# Altium footprint library K60_144.PcbLib: 19 footprints (part 2 of 2)
Each footprint in its own frame and in the unit in brackets; x right, y up, seen from the top. Pads: shape width x height; smd on the part's side, far side on the other; paste and mask are expansions set on the pad; w line width, h text height; cw(c..) or ccw(c..) is an arc to the next point about the centre after c.
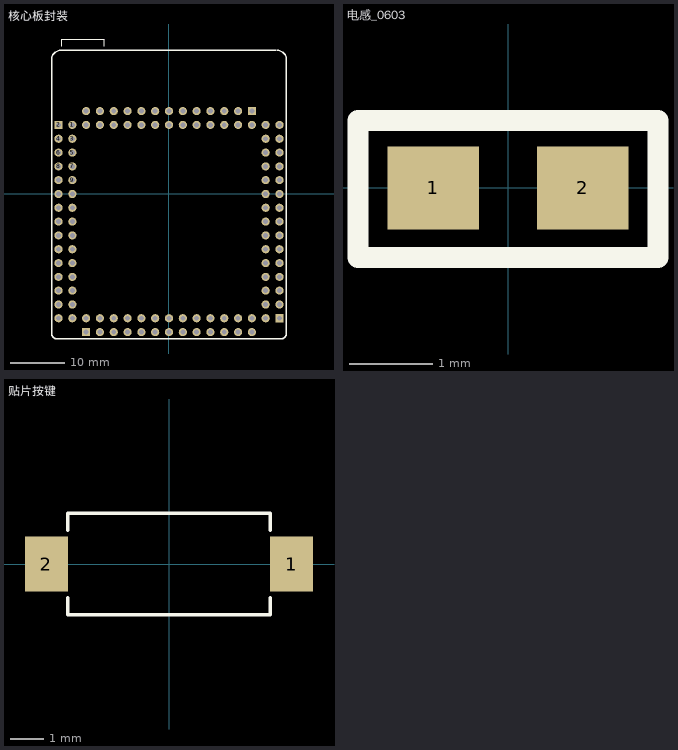
[diagram p1: the footprints below, top view; thin cyan lines are the x and y axes]

## 核心板封装 [mm] "144p 超核电子"
pads (112):
  round 1.5 hole 0.9: 1(-17.78,12.624) 3(-17.78,10.084) 4(-20.32,10.084) 5(-17.78,7.544) 6(-20.32,7.544) 7(-17.78,5.004) 8(-20.32,5.004) 9(-17.78,2.464) 10(-20.32,2.464) 11(-17.78,-0.076) 12(-20.32,-0.076) 13(-17.78,-2.616) 14(-20.32,-2.616) 15(-17.78,-5.156) 16(-20.32,-5.156) 17(-17.78,-7.696) 18(-20.32,-7.696) 19(-17.78,-10.236) 20(-20.32,-10.236) 21(-17.78,-12.776) 22(-20.32,-12.776) 23(-17.78,-15.316) 24(-20.32,-15.316) 25(-17.78,-17.856) 26(-20.32,-17.856) 27(-17.78,-20.396) 28(-20.32,-20.396) 29(-17.78,-22.936) 30(-20.32,-22.936) 32(-15.24,-22.936) 33(-12.7,-25.476) 34(-12.7,-22.936) 35(-10.16,-25.476) 36(-10.16,-22.936) 37(-7.62,-25.476) 38(-7.62,-22.936) 39(-5.08,-25.476) 40(-5.08,-22.936) 41(-2.54,-25.476) 42(-2.54,-22.936) 43(0,-25.476) 44(0,-22.936) 45(2.54,-25.476) 46(2.54,-22.936) 47(5.08,-25.476) 48(5.08,-22.936) 49(7.62,-25.476) 50(7.62,-22.936) 51(10.16,-25.476) 52(10.16,-22.936) 53(12.7,-25.476) 54(12.7,-22.936) 55(15.24,-25.476) 56(15.24,-22.936) 57(17.78,-22.936) 59(17.78,-20.396) 60(20.32,-20.396) 61(17.78,-17.856) 62(20.32,-17.856) 63(17.78,-15.316) 64(20.32,-15.316) 65(17.78,-12.776) 66(20.32,-12.776) 67(17.78,-10.236) 68(20.32,-10.236) 69(17.78,-7.696) 70(20.32,-7.696) 71(17.78,-5.156) 72(20.32,-5.156) 73(17.78,-2.616) 74(20.32,-2.616) 75(17.78,-0.076) 76(20.32,-0.076) 77(17.78,2.464) 78(20.32,2.464) 79(17.78,5.004) 80(20.32,5.004) 81(17.78,7.544) 82(20.32,7.544) 83(17.78,10.084) 84(20.32,10.084) 85(17.78,12.624) 86(20.32,12.624) 88(15.24,12.624) 89(12.7,15.164) 90(12.7,12.624) 91(10.16,15.164) 92(10.16,12.624) 93(7.62,15.164) 94(7.62,12.624) 95(5.08,15.164) 96(5.08,12.624) 97(2.54,12.624) 98(2.54,15.164) 99(0,12.624) 100(0,15.164) 101(-2.54,12.624) 102(-2.54,15.164) 103(-5.08,12.624) 104(-5.08,15.164) 105(-7.62,12.624) 106(-7.62,15.164) 107(-10.16,12.624) 108(-10.16,15.164) 109(-12.7,12.624) 110(-12.7,15.164) 111(-15.24,12.624) 112(-15.24,15.164)
  rect 1.5x1.5 hole 0.9: 2(-20.32,12.624) 31(-15.24,-25.476) 58(20.32,-22.936) 87(15.24,15.164)
Top Overlay:
  lines w0.2: -19.71,27.126 -19.71,28.426 -11.887,28.426 -11.887,27.126
  lines w0.254: 19.761,26.34 -19.939,26.34 ccw(c-19.875,24.626) -21.59,24.689 -21.59,-24.206 -21.59,-25.73 ccw(c-20.574,-25.73) -20.574,-26.746 16.51,-26.746 20.574,-26.746 ccw(c20.574,-25.73) 21.59,-25.73 21.59,-24.206 ; 19.939,26.34 cw(c19.875,24.626) 21.59,24.689 21.59,-24.333
Mechanical 13:
  lines w0.1: -19.736,28.423 -11.887,28.423

## 电感_0603 [mm]
pads (2):
  rect 1.1x1 smd: 1(-0.9,0) 2(0.9,0)
Top Overlay:
  lines w0.254: -1.803,-0.838 -1.803,0.813 1.803,0.813 1.803,-0.838 -1.803,-0.838
3D body: height -0.4, standoff -1.35, extent -1.025,-0.59 0.975,0.61

## 贴片按键 [mil]
pads (2):
  rect 51.18x65 smd: 1(145,0) 2(-145,0)
Top Overlay:
  lines w3.94: -120,-40 -120,-60 120,-60 120,-40 ; -120,40 -120,60 120,60 120,40
3D body: height 74.8, standoff 0, extent -129.92,-65 129.92,60.98